# Altium schematic symbol library Cp0603.Schlib: 1 symbol
Pins are listed as number, name and electrical type; pins without a type are passive.

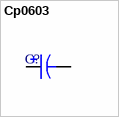
[diagram p0: symbol Cp0603]

## Cp0603
designator C?  (value not drawn)
0603 Polarized Chip Capacitor - Standard
pins: 1, 2